# EAGLE library part CC6-4812SF-E (library Schuyler)
TDK-Lamda DC-DC Converter Vin = 48V, Vout = 12V, Power = 6W.
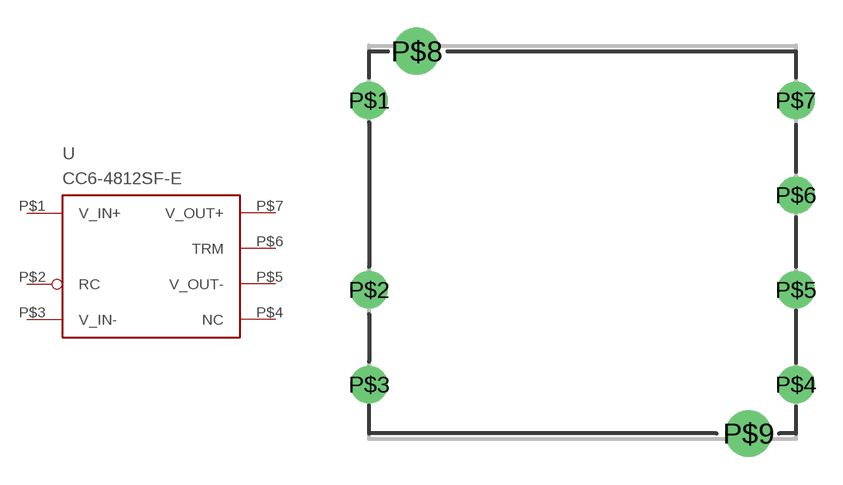
[diagram p3: symbol with the pads of CC6-XXXXXF-E; footprint CC6-XXXXXF-E]

Designator prefix U

## CC6-4812SF-E' (MANPARTNUMBER: CC6-4812SF-E; MANUFACTURER: TDK-Lamda Americas Inc; PARTNUMBER: 445-3288-ND; SUPPLIER: DIGIKEY; VERIFIED: TRUE)  [CC6-XXXXXF-E]
P$1  V_IN+  pwr
P$2  RC
P$3  V_IN-  pwr
P$4  NC  nc
P$5  V_OUT-  pwr
P$6  TRM
P$7  V_OUT+  pwr

## Footprint CC6-XXXXXF-E (pad centres in mm)
Package for C6-xxxxxF-E Series TDK-Lambda DC-DC converters
drill 1 pad 2: P$1 0,-2.63; P$2 0,-12.79; P$3 0,-17.87; P$4 22.86,-17.87; P$5 22.86,-12.79; P$6 22.86,-7.71; P$7 22.86,-2.63
drill 1.5 pad 2.5: P$8 2.54,0; P$9 20.32,-20.5